# Altium schematic symbol library SCHLib.SchLib: 80 symbols (part 1 of 3)
Pins are listed as number, name and electrical type; pins without a type are passive.

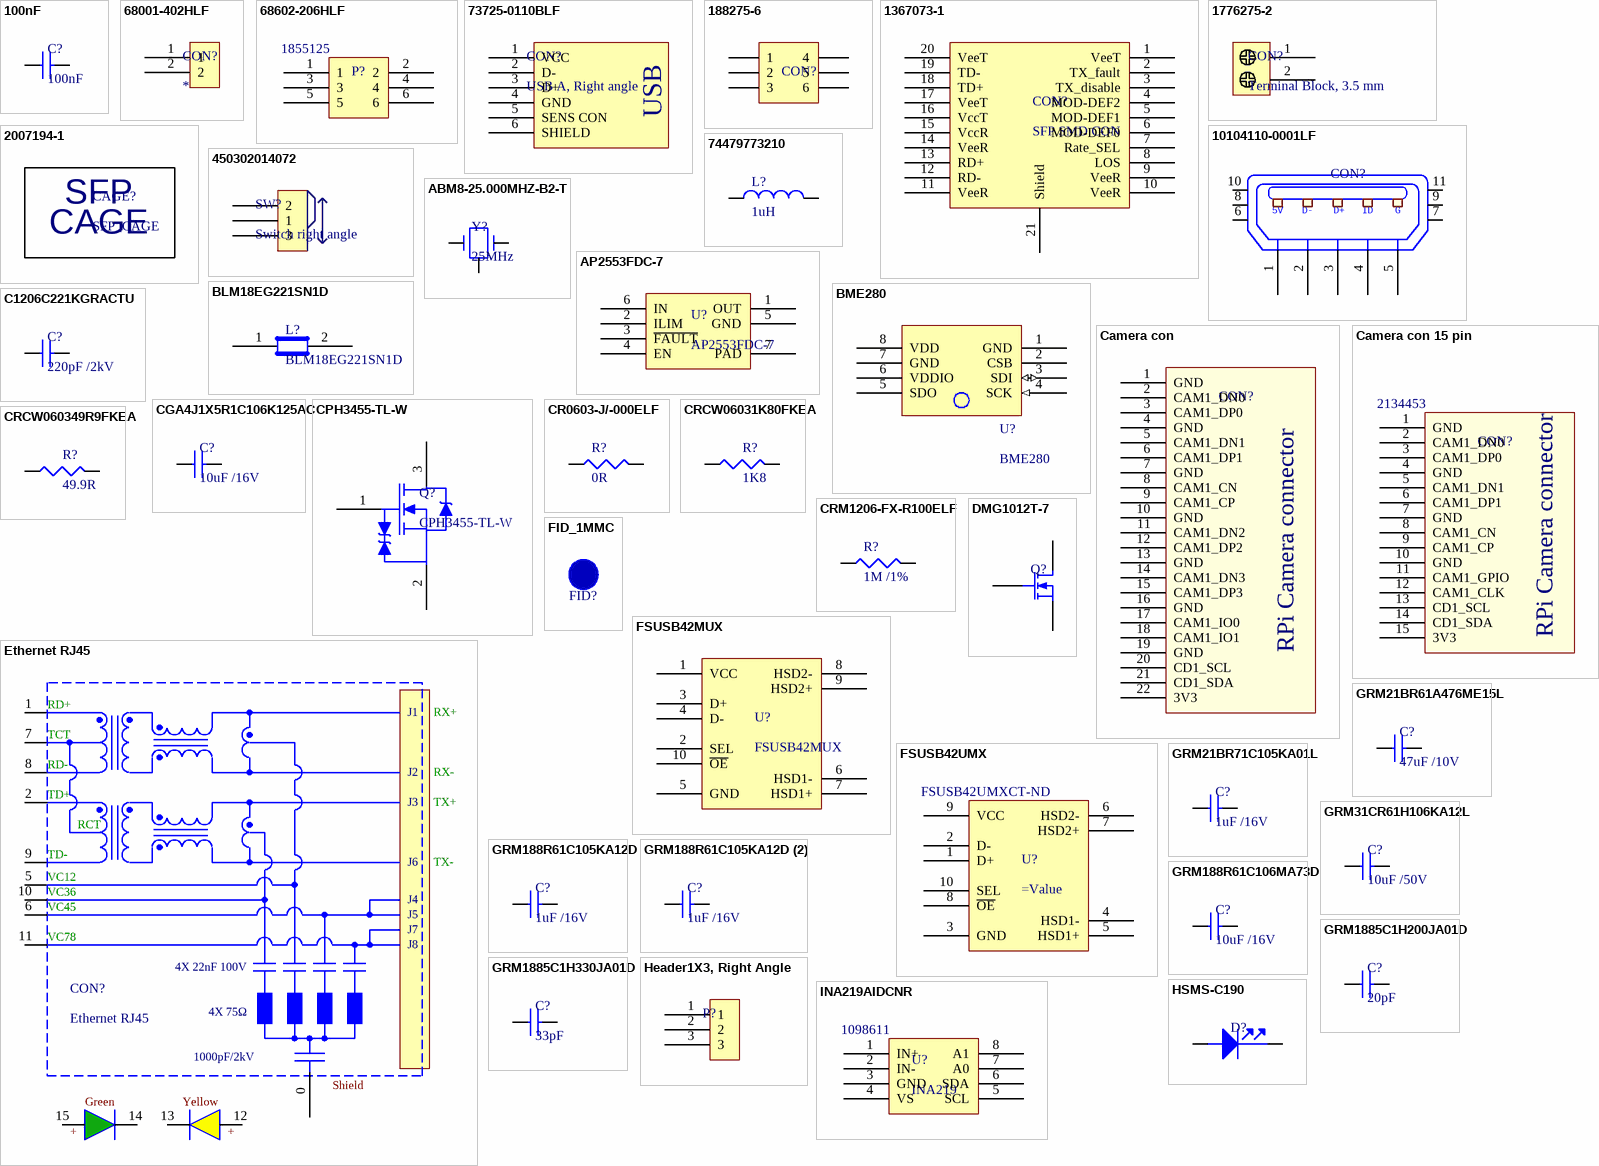
[diagram p0: symbols 100nF to INA219AIDCNR]

## 100nF
designator C?
MURATA - GRM188R71C104KA01J - CAP, MLCC, X7R, 0.1UF, 16V, 0603; Ceramic Capacitor Case: 0603 [1608 Metric]; Capacitance: 0.1; Voltage Rating: 16; Capacitance Tolerance: ± 10%; Dielectric Characteristic: X7; Product Range: GRM Series; SVHC: No SVHC (20-Jun-2016; Supplier 1: Farnell; Manufacturer: MURATA; Manufacturer Part Number: GRM188R71C104KA01J; RoHS: YES; Stock 1: 18297; Pricing 1: 10=0.0145, 100=0.0126, 500=0.0081, 2500=0.0059, 5000=0.0052, 10000=0.0046, 50000=0.0036, 100000=0.0035 (GBP); Packaging: Cut Tape; Operating Temperature Min: -55; Operating Temperature Max: 125; Automotive Qualification Standard: -; MSL: MSL 1 - Unlimited; ComponentLink1URL: http://www.farnell.com/datasheets/2189124.pdf; ComponentLink1Description: http://www.farnell.com/datasheets/2189124.pdf; Supplier Part Number 1: 2688519
footprint CAP0603
pins: 1, 2

## 68001-402HLF
designator CON?
Headers & Wire Housings 2P VERT HDR; Manufacturer: Amphenol FCI; Manufacturer Part Number: 68001-402HLF; Current Rating: 3 A; Mounting Angle: Vertical; Number of Positions: 2 Position; Voltage Rating: 1.5 kV; Pitch: 2.54 mm; Insulation Resistance: 5000 MOhms; Mating Post Length: 5.84 mm; Supplier 1: Mouser; RoHS: RoHS Compliant; Category: Headers & Wire Housings; Stock 1: 11486; Pricing 1: 1=0.113, 10=0.104, 100=0.064, 500=0.053, 1000=0.046, 2500=0.042, 5000=0.040, 10000=0.039, 25000=0.036 (EUR); Contact Plating: Tin; Housing Material: Thermoplastic; Number of Rows: 1 Row; Operating Temperature Range: - 65 C to + 125 C; Packaging: Bulk; Product: Headers; Series: 68001; Termination Style: Through Hole; Type: Unshrouded; Brand: Amphenol FCI; Contact Material: Phosphor Bronze; Flammability Rating: UL 94 V-0; Mounting Style: -; Contact Gender: Pin (Male); Housing Gender: -; Standard Pack Qty: 100; Termination Post Length: 3.05 mm; Tradename: BergStik; RoHS - Mouser: Y; Minimum Order Quantity: 1; Reeling: False; ComponentLink1URL: http://www.mouser.com/ds/2/18/bus-12-050-943077.pdf; ComponentLink1Description: http://www.mouser.com/ds/2/18/bus-12-050-943077.pdf
footprint Hdr1x2_2.54mm (Creator MM)
pins: 1, 2

## 68602-206HLF
designator P?, comment Supplier Part Number 2: 1855125  (hidden comment: HDR2X3)
Headers & Wire Housings 6P DR VRT UNSHRD HDR .38 GOLD OVER NICKEL; Manufacturer: Amphenol FCI; Manufacturer Part Number: 68602-206HLF; Current Rating: 3 A; Mounting Angle: Vertical; Number of Positions: 6 Position; Voltage Rating: 1.5 kV; Pitch: 2.54 mm; Insulation Resistance: 5000 MOhms; Mating Post Length: 5.84 mm; Supplier 1: Mouser; RoHS: RoHS Compliant; Category: Headers & Wire Housings; Stock 1: 1389; Pricing 1: 1=0.443, 10=0.427, 100=0.300, 500=0.256, 1000=0.214, 2500=0.196, 5000=0.184, 10000=0.174 (EUR); Contact Plating: Gold; Housing Material: Thermoplastic; Number of Rows: 2 Row; Operating Temperature Range: - 65 C to + 125 C; Packaging: Bulk; Product: Headers; Series: 68602; Termination Style: Through Hole; Type: Unshrouded; Brand: Amphenol FCI; Contact Material: Phosphor Bronze; Flammability Rating: UL 94 V-0; Mounting Style: -; Contact Gender: Pin (Male); Housing Gender: -; Standard Pack Qty: 100; Termination Post Length: 3.81 mm; Tradename: BergStik; RoHS - Mouser: Y; Minimum Order Quantity: 1; Reeling: False; ComponentLink1URL: http://www.mouser.com/ds/2/18/bus-12-050-943077.pdf; ComponentLink1Description: http://www.mouser.com/ds/2/18/bus-12-050-943077.pdf; Supplier Part Number 1: 649-68602-206HLF; Supplier 2: Farnell; Stock 2: 650; Pricing 2: 1=2.52, 10=2, 25=1.93, 50=1.77, 100=1.61 (GBP); ComponentLink2URL: http://www.ti.com/general/docs/lit/getliterature.tsp?genericPartNumber=INA219&fileType=pdf; ComponentLink2Description: http://www.ti.com/general/docs/lit/getliterature.tsp?genericPartNumber=INA219&fileType=pdf; ComponentLink3URL: http://www.farnell.com/cad/1611639.zip; ComponentLink3Description: http://www.farnell.com/cad/1611639.zip; ComponentLink4URL: http://www.farnell.com/datasheets/2037325.pdf; ComponentLink4Description: http://www.farnell.com/datasheets/2037325.pdf
footprint HDR2X3_2.54MM (Creator MM. Boxed overlay added)
pins: 1, 2, 3, 4, 5, 6

## 73725-0110BLF
designator CON?, comment USB A, Right angle
AMPHENOL FCI - 73725-0110BLF - USB, 2.0 TYPE A, RECEPTACLE, TH; USB Connector Type: USB Type A; USB Standard: USB 2.0; No. of Positions: 4; Connector Mounting: Through Hole Mount; SVHC: No SVHC (15-Jun-2015); Connector Type: USB A; Contact Termination: Through Hole Right Angle; Contact Termination Type: Through Hole; No. of Contacts: 4Contacts<!--FANDB--><div class="features-and-benefits-container"><div class="features-and-benefits-description"><span class="features-benefits-value">The 73725-0110BLF is a right angle USB type-A Receptacle Connector with single stack, 30?inch GXT contact and glass fibre filled thermoplastic housing.</span></div><div class="features-and-benefits-list"><ul class="features-and-benefits-list-list"><li class="features-and-benefits-list-item">Through Hole Mounting</li><li class="features-and-benefits-list-item">Up Right Pin Orientation</li><li class="features-and-benefits-list-item">Pure Tin-plated Shell</li><li class="features-and-benefits-list-item">100; Supplier 1: Farnell; Manufacturer: AMPHENOL FCI; Manufacturer Part Number: 73725-0110BLF; RoHS: YES; Stock 1: 6842; Pricing 1: 1=0.476, 10=0.433, 100=0.39, 500=0.353, 1000=0.316, 2500=0.31, 9000=0.303 (GBP); Gender: Receptacle; Orientation: Right Angle; Contact Material: Copper Alloy; Contact Plating: Gold Plated Contacts; Product Range: -; ComponentLink1URL: http://www.farnell.com/cad/2043081.pdf; ComponentLink1Description: http://www.farnell.com/cad/2043081.pdf; ComponentLink2URL: http://www.farnell.com/datasheets/1918629.pdf; ComponentLink2Description: http://www.farnell.com/datasheets/1918629.pdf; Supplier Part Number 1: 2112380
footprint USB A, TH, Right Angle
pins: 1 VCC (oc), 2 D- (oc), 3 D+ (oc), 4 GND (oc), 5 SENS CON (oc), 6 SHIELD (oc)
text: USB

## 188275-6
designator CON?, comment MICROMATCH 6 SMD  (value not drawn)
AMP - TE CONNECTIVITY - 188275-6 - CONNECTOR, RCPT, 6POS, 2ROW, 1.27MM; Supplier 1: Farnell; Manufacturer: AMP - TE CONNECTIVITY; Manufacturer Part Number: 188275-6; RoHS: YES; Stock 1: 82; Pricing 1: 10=0.616, 50=0.561, 100=0.517, 250=0.482, 500=0.448, 1000=0.395 (GBP); ComponentLink1URL: http://www.farnell.com/cad/1942471.pdf; ComponentLink1Description: http://www.farnell.com/cad/1942471.pdf; Supplier Part Number 1: 2452479
footprint MICROMATCH2X3
pins: 1, 2, 3, 4, 5, 6

## 1367073-1
designator CON?, comment SFP SMD CON
AMP - TE CONNECTIVITY - 1367073-1 - CONNECTOR, SFP, SMT, 20WAY; No. of Contacts: 20; Gender: Receptacle; Contact Termination Type: Solder; Product Range: SFP System Series; Connector Mounting: PCB Mount; SVHC: No SVHC (15-Jun-2015); Connector Mounting Orientation: Surface Mount; Supplier 1: Farnell; Manufacturer: AMP - TE CONNECTIVITY; Manufacturer Part Number: 1367073-1; RoHS: YES; Stock 1: 1743; Pricing 1: 1=0.99, 10=0.92, 50=0.89, 100=0.58, 250=0.56, 500=0.54 (GBP); Connector Type: SFP; Contact Plating: Gold Plated Contacts; Contact Material: Phosphor Bronze; Colour: Black; Contact Termination: Solder; Flammability Rating: UL 94V-0; Material: Liquid Crystal Polymer (LCP); Packaging: Cut Tape; Termination Method: Solder<!--FANDB--><div class="features-and-benefits-container"><div class="features-and-benefits-description"><span class="features-benefits-value">The 1367073-1 is a 20-pin 1-port surface-mount SFP Connector with gold-plated phosphor bronze contacts and black LCP housing. The connector features integrated light pipes for port indicators, connectors with improved signal integrity, enhanced EMI springs for increased EMI suppression and riding heat sink technology for thermal management.</span></div><div class="features-and-benefits-list"><ul class="features-and-benefits-list-list"><li class="features-and-benefits-list-item">Supports applications up to 4Gbps</li><li class="features-and-benefits-list-item">Cages available in single port, ganged and stacked configurations</li><li class="features-and-benefits-list-item">Stacked cages have integrated connectors, press-fit in one process step</li><li class="features-and-benefits-list-item">Uses 20 position PT (pluggable transceiver) connector</li><li class="features-and-benefits-list-item">Direct attach copper cable assemblies for lower cost with short reach</li><li class="features-and-benefits-list-item">Integrated light pipes for port indicators</li><li class="features-and-benefits-list-item">Enhanced EMI springs for increased EMI suppression</li><li class="features-and-benefits-list-item">Riding heat sink technology for thermal management</li></ul></div><div class="features-and-benefits-applications"><ul class="features-and-benefits-value"><li class="features-and-benefits-list-item">Industrial</li></ul></div></div>; ComponentLink1URL: http://www.tycoelectronics.com/commerce/DocumentDelivery/DDEController?Action=srchrtrv&DocNm=1367073-1&DocType=Customer+View+Model&DocLang=English; ComponentLink1Description: http://www.tycoelectronics.com/commerce/DocumentDelivery/DDEController?Action=srchrtrv&DocNm=1367073-1&DocType=Customer+View+Model&DocLang=English; ComponentLink2URL: http://www.farnell.com/cad/1794462.pdf; ComponentLink2Description: http://www.farnell.com/cad/1794462.pdf; ComponentLink3URL: http://www.tycoelectronics.com/commerce/DocumentDelivery/DDEController?Action=srchrtrv&DocNm=408-8495&DocType=Specification+Or+Standard&DocLang=English; ComponentLink3Description: http://www.tycoelectronics.com/commerce/DocumentDelivery/DDEController?Action=srchrtrv&DocNm=408-8495&DocType=Specification+Or+Standard&DocLang=English; ComponentLink4URL: http://www.farnell.com/datasheets/1650946.pdf; ComponentLink4Description: http://www.farnell.com/datasheets/1650946.pdf; Supplier Part Number 1: 1629987
footprint PCB_SFP_COVER
pins: 1 VeeT, 2 TX_fault, 3 TX_disable, 4 MOD-DEF2, 5 MOD-DEF1, 6 MOD-DEF0, 7 Rate_SEL, 8 LOS, 9 VeeR, 10 VeeR, 11 VeeR, 12 RD-, 13 RD+, 14 VeeR, 15 VccR, 16 VccT, 17 VeeT, 18 TD+, 19 TD-, 20 VeeT, 21 Shield (oc)

## 1776275-2
designator CON?, comment Terminal Block, 3.5 mm
TE CONNECTIVITY - 1776275-2 - TERMINAL BLOCK, WIRE TO BRD, 2POS, 18AWG; Pitch Spacing: 3.5; No. of Positions: 2; Wire Size AWG Min: 26; Wire Size AWG Max: 18; Conductor Area CSA: 0.9; Wire Connection Method: Screw; Rated Current: 7; Rated Voltage: 250; Block Orientation: Through Hole Right Angle; SVHC: No SVHC (15-Jun-2015); Approval Bodies: CSA, UL; Connector Mounting: PCB Mount; Connector Type: Terminal Block, PCB; Contact Current Rating: 10; Wire Area Size Max: 2.08mm²<!--FANDB--><div class="features-and-benefits-container"><div class="features-and-benefits-description"><span class="features-benefits-value">The 1776275-2 from TE Connectivity is a through hole, 2 position vertical PCB mount terminal block with interlocking. This terminal block comes with 3.5mm pitch spacing and is suitable for wire size ranging from 26AWG to 18; Supplier 1: Farnell; Manufacturer: TE CONNECTIVITY; Manufacturer Part Number: 1776275-2; RoHS: Y-EX; Stock 1: 22978; Pricing 1: 1=0.198, 50=0.148, 150=0.141, 250=0.135, 500=0.128, 1500=0.123 (GBP); Product Range: -; Colour: Blue; Contact Material: Brass; Contact Plating: Tin Plated Contacts; Lead Spacing: 3.5; Voltage Rating VAC: 250; ComponentLink1URL: http://www.farnell.com/datasheets/1899918.pdf; ComponentLink1Description: http://www.farnell.com/datasheets/1899918.pdf; ComponentLink2URL: http://www.farnell.com/cad/2291290.pdf; ComponentLink2Description: http://www.farnell.com/cad/2291290.pdf; ComponentLink3URL: http://www.farnell.com/datasheets/1650926.pdf; ComponentLink3Description: http://www.farnell.com/datasheets/1650926.pdf; ComponentLink4URL: http://www.farnell.com/datasheets/2159487.pdf; ComponentLink4Description: http://www.farnell.com/datasheets/2159487.pdf; Supplier Part Number 1: 1098611
footprint Block Terminal 3.5mm
pins: 1 (oc), 2 (oc)

## 2007194-1
designator CAGE?, comment SFP_CAGE
TE CONNECTIVITY - 2007194-1 - CAGE, 1X1, SFP+, PCI APPLICATIONS; Accessory Type: Connector Cage / Frame; For Use With: Small Form-Factor Pluggable Connectors; Connector Mounting: PCB Mount; Connector Mounting Orientation: PC Board; Connector Type: SFP; Contact Termination: Solder; Supplier 1: Farnell; Manufacturer: TE CONNECTIVITY; Manufacturer Part Number: 2007194-1; RoHS: YES; Stock 1: 26; Pricing 1: 1=4.6, 5=4.41, 10=4.22, 25=4.03, 50=3.5, 200=3.18, 500=2.86, 2000=2.8 (GBP); Product Range: -; Material: Nickel Silver<!--FANDB--><div class="features-and-benefits-container"><div class="features-and-benefits-description"><span class="features-benefits-value">The 2007194-1 is a 1-port Cage Assembly with external springs and solder through-hole termination. It is made with nickel silver single cage. The SFP+ pluggable cage designed to support data rate of 16Gbps. This SFP+ pluggable cage has one degree mounting angle to meet the requirements of SFF-8075 for PCI card applications and support belly-to-belly mount applications.</span></div><div class="features-and-benefits-applications"><ul class="features-and-benefits-value"><li class="features-and-benefits-list-item">Industrial</li></ul></div></div>; ComponentLink1URL: http://www.farnell.com/datasheets/1654545.pdf; ComponentLink1Description: http://www.farnell.com/datasheets/1654545.pdf; ComponentLink2URL: http://www.farnell.com/cad/1661409.pdf; ComponentLink2Description: http://www.farnell.com/cad/1661409.pdf; ComponentLink3URL: http://www.farnell.com/datasheets/1922296.pdf; ComponentLink3Description: http://www.farnell.com/datasheets/1922296.pdf; Supplier Part Number 1: 1755779
footprint SFP_CAGE_3D
text: CAGE

## 10104110-0001LF
designator CON?  (value not drawn)
AMPHENOL FCI - 10104110-0001LF - MICRO USB, 2.0 TYPE B, RECEPTACLE, SMT; USB Connector Type: Micro USB Type B; USB Standard: USB 2.0; No. of Positions: 5; Connector Mounting: Surface Mount; SVHC: No SVHC (15-Jun-2015); Connector Type: USB Micro B; Contact Termination: Surface Mount Right Angle; No. of Contacts: 5Contacts<!--FANDB--><div class="features-and-benefits-container"><div class="features-and-benefits-description"><span class="features-benefits-value">The 10104110-0001LF is a micro-USB type-B Receptacle Connector, comply with physical, electrical and environmental requirements of micro-USB standard (USB 2.0). Space receptacles and plugs are available in a wide variety of mounting and termination configurations, permitting their use in various applications. Compared with the standard mini-B connectors, the size is reduced by approximately 60% while still allowing a high-speed data transfer of 480; Supplier 1: Farnell; Manufacturer: AMPHENOL FCI; Manufacturer Part Number: 10104110-0001LF; RoHS: YES; Stock 1: 25585; Pricing 1: 1=0.464, 10=0.451, 25=0.437, 50=0.424, 100=0.41, 250=0.291 (GBP); Gender: Receptacle; Orientation: Right Angle; Contact Material: Copper Alloy; Contact Plating: Gold Plated Contacts; Product Range: -; Contact Termination Type: Surface Mount; ComponentLink1URL: http://www.farnell.com/datasheets/1469072.pdf; ComponentLink1Description: http://www.farnell.com/datasheets/1469072.pdf; Supplier Part Number 1: 2293753
footprint 10118193 (Creator MM)
pins: 1 P1, 2 P2, 3 P3, 4 P4, 5 P5, 6, 7, 8, 9, 10, 11
text: 5V; D-; D+; ID; G

## 74479773210
designator L?, comment 1uH
WURTH ELEKTRONIK - 74479773210 - INDUCTOR, MULTILAYER, 1UH, SMD; Product Range: WE-PMI Series; Inductance: 1; DC Resistance Max: 0.18; Inductance Tolerance: ± 20%; Power Inductor Case: 2mm x 1.25mm x 0.5; RMS Current (Irms): 1.2; Saturation Current (Isat): 800; Supplier 1: Farnell; Manufacturer: WURTH ELEKTRONIK; Manufacturer Part Number: 74479773210; RoHS: YES; Stock 1: 46; Pricing 1: 1=0.39, 50=0.34, 100=0.29, 250=0.25 (GBP); Inductor Construction: Multilayer; Packaging: Cut Tape; ComponentLink1URL: http://www.farnell.com/cad/2130715.pdf; ComponentLink1Description: http://www.farnell.com/cad/2130715.pdf; ComponentLink2URL: http://www.farnell.com/datasheets/1795751.pdf; ComponentLink2Description: http://www.farnell.com/datasheets/1795751.pdf; Supplier Part Number 1: 2400015
footprint CAP0805
pins: 1, 2

## 450302014072
designator SW?, comment Switch right angle
WURTH ELEKTRONIK - 450302014072 - SWITCH, SLIDE, MINI, ON-ON, RIGHT ANGLE; Contact Configuration: SPDT; Switch Mounting: Through Hole; Contact Current Max: 500; Contact Voltage DC Max: 12; Contact Resistance: 30; Supplier 1: Farnell; Manufacturer: WURTH ELEKTRONIK; Manufacturer Part Number: 450302014072; RoHS: YES; Stock 1: 395; Pricing 1: 1=1.86, 100=1.46, 500=1.43, 900=1.4, 3000=1.37, 6000=1.34, 9000=1.31 (GBP); Switch Operation: On-On; Product Range: -; Contact Voltage AC Max: -; Orientation: Right Angle; Operating Temperature Max: 85; Operating Temperature Min: -40°C<!--FANDB--><div class="features-and-benefits-container"><div class="features-and-benefits-description"><span class="features-benefits-value">The 450302014072 is a 3.5 x 4.7mm surface mount J-bend side push Switch with 220 ±50g operation force and boss design. It comes with gold-plated contact and UL94V-0 rated PA66 housing. The 436333045822 features SPDT contact configuration.</span></div><div class="features-and-benefits-list"><ul class="features-and-benefits-list-list"><li class="features-and-benefits-list-item">UL94V-0 Flame-rated insulator</li><li class="features-and-benefits-list-item">10000; ComponentLink1URL: http://www.farnell.com/datasheets/1913864.pdf; ComponentLink1Description: http://www.farnell.com/datasheets/1913864.pdf; Supplier Part Number 1: 2134453
footprint SW ANGLE 3PIN
pins: 1 (oc), 2 (oc), 3 (oc)

## ABM8-25.000MHZ-B2-T
designator Y?, comment 25MHz
ABRACON - ABM8-25.000MHZ-B2-T - CRYSTAL, 25M, 18PF CL, 3.2X2.5MM SMT; Frequency Nom: 25; Crystal Case: SMD, 3.2mm x 2.5; Frequency Stability + / -: 50; Load Capacitance: 18; Frequency Tolerance + / -: 20; Product Range: ABM8 Series; SVHC: No SVHC (15-Jun-2015); Accuracy: ± 20; Crystal Mounting Type: SMD; Frequency Stability: ± 50; No. of Pins: 4; Supplier 1: Farnell; Manufacturer: ABRACON; Manufacturer Part Number: ABM8-25.000MHZ-B2-T; RoHS: YES; Stock 1: 4212; Pricing 1: 1=1.09, 2=0.9, 3=0.807, 5=0.745, 10=0.696, 20=0.658, 50=0.633, 100=0.621 (GBP); Operating Temperature Min: -20; Operating Temperature Max: 70; Frequency: 25; Operating Temperature Range: -20°C to +70; Output Frequency: 25; Packaging: Cut Tape<!--FANDB--><div class="features-and-benefits-container"><div class="features-and-benefits-description"><span class="features-benefits-value">The ABM8-25.000MHZ-B2-T is a 3.2 x 2.5 x 0.8mm 20ppm ultra miniature ceramic surface-mount Crystal features seam sealed assures high reliability, tight tolerance and stability. The ABM8 series crystal for use with the modems, communication and test equipment, PMCIA, wireless and high density applications. It is suitable for reflow profile.</span></div><div class="features-and-benefits-list"><ul class="features-and-benefits-list-list"><li class="features-and-benefits-list-item">Fundamental operation mode</li><li class="features-and-benefits-list-item">50; ComponentLink1URL: http://www.farnell.com/datasheets/1883676.pdf; ComponentLink1Description: http://www.farnell.com/datasheets/1883676.pdf; Supplier Part Number 1: 1611821
footprint XTAL_small (3.2 X 2.5 mm SMD crystal)
pins: 1, 2, 3

## AP2553FDC-7
designator U?
IC PD SW CURR LIMIT 6DFN; Manufacturer: Diodes Incorporated; Switch Type: General Purpose; Number of Outputs: 1; Ratio - Input:Output: 1:1; Output Configuration: High Side; Output Type: P-Channel; Interface: On/Off; Voltage - Load: 2.7 V ~ 5.5 V; Voltage - Supply (Vcc/Vdd): Not Required; Current - Output (Max): 2.1A; Rds On (Typ): 80 mOhm; Input Type: Non-Inverting; Fault Protection: Current Limiting (Adjustable), Over Temperature, Reverse Current, UVLO; Supplier 1: Digi-Key; Manufacturer Part Number: AP2553FDC-7; RoHS: RoHS Compliant; Category: Integrated Circuits (ICs); Stock 1: 10636; Pricing 1: 1=0.5, 10=0.425, 100=0.3172, 500=0.24926, 1000=0.19261 (USD); Packaging: Cut Tape (CT); Part Status: Active; Features: Load Discharge, Status Flag; Operating Temperature: -40°C ~ 125°C (TJ); Package / Case: 6-UDFN Exposed Pad; Supplier Device Package: 6-DFN2020C (2x2); ComponentLink1URL: https://www.diodes.com/assets/Datasheets/AP255x.pdf; ComponentLink1Description: https://www.diodes.com/assets/Datasheets/AP255x.pdf; Supplier Part Number 1: AP2553FDC-7DICT-ND
footprint SON65P200X63_HS-7N (SON, 6-Leads, Body 2.01x2.01mm, Pitch 0.65mm, Thermal Pad 1.65x0.83mm, IPC Medium Density)
pins: 1 OUT (oc), 2 ILIM (oc), 3 ~{FAULT} (oc), 4 EN (oc), 5 GND (oc), 6 IN (oc), 7 PAD (oc)

## BLM18EG221SN1D
designator L?
MURATA - BLM18EG221SN1D - FERRITE BEAD, 0.05OHM, 2A, 0603; Impedance @ 100MHz: 220; Ferrite Case Style: 0603 [1608 Metric]; Product Range: BLM18; DC Current Rating: 2; DC Resistance Max: 0.05; Impedance Tolerance: ± 25%; SVHC: No SVHC (17-Dec-2015); Ferrite Mounting: SMD; Resistance: 0.05ohm<!--FANDB--><div class="features-and-benefits-container"><div class="features-and-benefits-description"><span class="features-benefits-value">The Murata BLM18EG series are EMIFIL chip ferrite beads for suppressing high frequency noise in GHz band general signal line applications. These chip ferrite beads are designed for reducing the possibility of resonance to provide undistorted signal waveform. EMIFIL chip ferrite beads do not require connection to ground so they are effectively used in circuits without stable ground lines. The nickel barrier structure of the external electrodes provides excellent solder heat resistance. BLM18EG series has modified internal electrode structure that minimizes stray capacitance and increases the effective frequency range.</span></div><div class="features-and-benefits-list"><ul class="features-and-benefits-list-list"><li class="features-and-benefits-list-item">EIA 0603 standard chip size</li><li class="features-and-benefits-list-item">Miniaturized ferrite beads</li><li class="features-and-benefits-list-item">Effective at low impedance line</li><li class="features-and-benefits-list-item">Available in selective impedance range values at 100MHz</li><li class="features-and-benefits-list-item">Low DC resistance</li><li class="features-and-benefits-list-item">Large rated current</li><li class="features-and-benefits-list-item">Excellent direct current characteristics</li><li class="features-and-benefits-list-item">Suitable for small and low profile equipments</li><li class="features-and-benefits-list-item">Operating temperature range -55°C to 125; Supplier 1: Farnell; Manufacturer: MURATA; Manufacturer Part Number: BLM18EG221SN1D; RoHS: YES; Stock 1: 36495; Pricing 1: 10=0.0777, 100=0.064, 500=0.0516, 1000=0.038, 2000=0.033, 4000=0.03, 20000=0.0295, 40000=0.0262 (GBP); Automotive Qualification Standard: -; Core Material: Ferrite; Operating Temperature Max: +125; Operating Temperature Min: -55; Packaging: Cut Tape; ComponentLink1URL: http://www.farnell.com/datasheets/5169.pdf; ComponentLink1Description: http://www.farnell.com/datasheets/5169.pdf; Supplier Part Number 1: 1515716
footprint CAP0603
pins: 1, 2

## BME280
designator U?
Board Mount Humidity Sensors; Manufacturer: Bosch Sensortec; Output Type: Digital; Interface Type: I2C, SPI; Operating Supply Current: 0.5 uA; Operating Supply Voltage: 1.8 V; RH Accuracy: 3 %; RH Range: 0 % to 100 %; Supply Voltage - Max: 3.6 VDC; Supply Voltage - Min: 1.7 VDC; Supplier 1: Mouser; Manufacturer Part Number: BME280; RoHS: RoHS Compliant; Category: Board Mount Humidity Sensors; Stock 1: 21206; Pricing 1: 1=6.85, 10=6.16, 25=5.06, 100=4.38, 250=4.24, 500=4.10, 1000=3.83, 2500=3.53, 5000=3.09, 10000=3.09 (EUR); Package/Case: LGA-8; Packaging: Reel; Product: Board Mount; Brand: Bosch Sensortec; Mounting Style: SMD/SMT; Maximum Operating Temperature: + 85 C; Minimum Operating Temperature: - 40 C; Standard Pack Qty: 10000; RoHS - Mouser: Y; Minimum Order Quantity: 1; Reeling: True; ComponentLink1URL: http://www.mouser.com/ds/2/783/BST-BME280_DS001-11-844833.pdf; ComponentLink1Description: http://www.mouser.com/ds/2/783/BST-BME280_DS001-11-844833.pdf; Supplier Part Number 1: 262-BME280
footprint CAVITY MEMS
pins: 1 GND (oc), 2 CSB (oc), 3 SDI (io), 4 SCK (in), 5 SDO (oc), 6 VDDIO (oc), 7 GND (oc), 8 VDD (oc)

## C1206C221KGRACTU
designator C?, comment 220pF /2kV
KEMET - C1206C221KGRACTU - CAP, MLCC, X7R, 220PF, 2KV, 1206; Supplier 1: Farnell; Manufacturer: KEMET; Manufacturer Part Number: C1206C221KGRACTU; RoHS: YES; Stock 1: 1984; Pricing 1: 5=0.153, 50=0.0991, 250=0.0793, 500=0.0671, 1000=0.0581, 2500=0.0484, 12500=0.0415, 25000=0.0363 (GBP); ComponentLink1URL: http://www.farnell.com/datasheets/2180568.pdf; ComponentLink1Description: http://www.farnell.com/datasheets/2180568.pdf; Supplier Part Number 1: 2676444RL
footprint CAP1206
pins: 1, 2

## Camera con
designator CON?
Raspberry Pi camera connector; Value: Camera
pins: 1 GND, 2 CAM1_DN0, 3 CAM1_DP0, 4 GND, 5 CAM1_DN1, 6 CAM1_DP1, 7 GND, 8 CAM1_CN, 9 CAM1_CP, 10 GND, 11 CAM1_DN2, 12 CAM1_DP2, 13 GND, 14 CAM1_DN3, 15 CAM1_DP3, 16 GND, 17 CAM1_IO0, 18 CAM1_IO1, 19 GND, 20 CD1_SCL, 21 CD1_SDA, 22 3V3
text: RPi Camera connector

## Camera con 15 pin
designator CON?, comment Supplier Part Number 2: 2134453  (hidden comment: 1-1734248-5)
Raspberry Pi camera connector; Manufacturer: TE Connectivity / AMP; Current Rating: 1 A; Gender: Female; Mounting Angle: Vertical; Number of Positions: 15 Position; Voltage Rating: 125 V; Pitch: 1 mm; Actuation Type: ZIF; Contact Configuration: SPDT; Switch Operation: On-On; Switch Mounting: Through Hole; Contact Current Max: 500; Contact Voltage DC Max: 12; Contact Resistance: 30; Value: Camera; Datasheet: http://www.mouser.com/ds/2/418/NG_CD_1734248_E1__-658235.pdf; Manufacturer Part Number: 1-1734248-5; Supplier 1: Mouser; RoHS: RoHS Compliant; Category: FFC & FPC Connectors; Stock 1: 1477; Pricing 1: 1=1.67, 25=1.53, 50=1.42, 100=1.26, 500=1.17, 1000=1.10, 2500=0.952 (EUR); Contact Plating: Gold; Housing Material: Polyamide (PA); Product: Board Mount; Series: FPC; Temperature Range: - 20 C to + 85 C; Termination Style: SMD; Brand: TE Connectivity / AMP; Contact Material: Phosphor Bronze; Standard Pack Qty: 1000; RoHS - Mouser: Y; Minimum Order Quantity: 1; Reeling: False; ComponentLink1URL: http://www.mouser.com/ds/2/418/NG_CD_1734248_E1__-658235.pdf; ComponentLink1Description: http://www.mouser.com/ds/2/418/NG_CD_1734248_E1__-658235.pdf; Supplier Part Number 1: 571-1-1734248-5; Supplier 2: Farnell; Stock 2: 395; Pricing 2: 1=1.86, 100=1.46, 500=1.43, 900=1.4, 3000=1.37, 6000=1.34, 9000=1.31 (GBP); Product Range: -; Contact Voltage AC Max: -; Orientation: Right Angle; Operating Temperature Max: 85; Operating Temperature Min: -40°C<!--FANDB--><div class="features-and-benefits-container"><div class="features-and-benefits-description"><span class="features-benefits-value">The 450302014072 is a 3.5 x 4.7mm surface mount J-bend side push Switch with 220 ±50g operation force and boss design. It comes with gold-plated contact and UL94V-0 rated PA66 housing. The 436333045822 features SPDT contact configuration.</span></div><div class="features-and-benefits-list"><ul class="features-and-benefits-list-list"><li class="features-and-benefits-list-item">UL94V-0 Flame-rated insulator</li><li class="features-and-benefits-list-item">10000; ComponentLink2URL: http://www.farnell.com/datasheets/1913864.pdf; ComponentLink2Description: http://www.farnell.com/datasheets/1913864.pdf
footprint 1-1734248-5 (flat cable connector)
pins: 1 GND, 2 CAM1_DN0, 3 CAM1_DP0, 4 GND, 5 CAM1_DN1, 6 CAM1_DP1, 7 GND, 8 CAM1_CN, 9 CAM1_CP, 10 GND, 11 CAM1_GPIO, 12 CAM1_CLK, 13 CD1_SCL, 14 CD1_SDA, 15 3V3
text: RPi Camera connector

## CGA4J1X5R1C106K125AC
designator C?, comment 10uF /16V
TDK - CGA4J1X5R1C106K125AC - CAP, MLCC, X5R, 10UF, 16V, 0805; Supplier 1: Farnell; Manufacturer: TDK; Manufacturer Part Number: CGA4J1X5R1C106K125AC; RoHS: YES; Stock 1: 8974; Pricing 1: 5=0.41, 50=0.146, 250=0.131, 500=0.12, 1000=0.103 (GBP); ComponentLink1URL: http://bcove.me/e1v54mtm; ComponentLink1Description: http://bcove.me/e1v54mtm; ComponentLink2URL: http://www.farnell.com/datasheets/1936565.pdf; ComponentLink2Description: http://www.farnell.com/datasheets/1936565.pdf; ComponentLink3URL: http://www.farnell.com/datasheets/1683658.pdf; ComponentLink3Description: http://www.farnell.com/datasheets/1683658.pdf; Supplier Part Number 1: 2210948RL
footprint CAP0805
pins: 1, 2

## CPH3455-TL-W
designator Q?
ON SEMICONDUCTOR - CPH3455-TL-W - MOSFET, N-CH, 35V, 3A, CPH-3; Supplier 1: Farnell; Manufacturer: ON SEMICONDUCTOR; Manufacturer Part Number: CPH3455-TL-W; RoHS: YES; Stock 1: 2861; Pricing 1: 1=0.451, 50=0.378, 100=0.203, 250=0.193, 500=0.175, 1000=0.126 (GBP); ComponentLink1URL: http://www.farnell.com/datasheets/2000321.pdf; ComponentLink1Description: http://www.farnell.com/datasheets/2000321.pdf; ComponentLink2URL: http://www.farnell.com/datasheets/2289080.pdf; ComponentLink2Description: http://www.farnell.com/datasheets/2289080.pdf; Supplier Part Number 1: 2508370
footprint SOT23127P600-8N - 1
pins: 1 (oc), 2 (oc), 3 (oc)

## CR0603-J/-000ELF
designator R?, comment 0R
BOURNS - CR0603-J/-000ELF - RES, THICK FILM, 0R, 5%, 0.1W, 0603; Resistance: 0; Voltage Rating: 50; Resistor Case Style: 0603 [1608 Metric]; Power Rating: 100; Product Range: CR Series; SVHC: No SVHC (17-Dec-2015); Resistor Mounting: Surface Mount Device<!--FANDB--><div class="features-and-benefits-container"><div class="features-and-benefits-description"><span class="features-benefits-value">The Bourns CR series are standard thick film chip resistors. These resistors provide flexibility of performance, space saving and low cost. The Resistance range includes E96 and E24 decade values from 1ohm to 10Mohm.</span></div><div class="features-and-benefits-list"><ul class="features-and-benefits-list-list"><li class="features-and-benefits-list-item">0201, 0402, 0603, 0805, 1206, 1210, 2010, 2512 standard case sizes available</li><li class="features-and-benefits-list-item">±1% and ±5% tolerance</li><li class="features-and-benefits-list-item">±100ppm/°C, ±200ppm/°C and ±250ppm/°C TCR values available</li><li class="features-and-benefits-list-item">Power rating selectable for 50mW, 63mW, 0.1W, 0.125W, 0.25W, 0.5W and 1W based on ordering</li><li class="features-and-benefits-list-item">Jumpers are available for all size</li><li class="features-and-benefits-list-item">3 layer termination process with nickel barrier prevents leaching & provides excellent solderability</li><li class="features-and-benefits-list-item">Suitable for all type of soldering processes</li><li class="features-and-benefits-list-item">Tight dimensional tolerances</li><li class="features-and-benefits-list-item">Maximum working voltage depends on case size</li><li class="features-and-benefits-list-item">Operating temperature of -55°C to +125°C(CR0201) and -55°C to +155; Supplier 1: Farnell; Manufacturer: BOURNS; Manufacturer Part Number: CR0603-J/-000ELF; RoHS: YES; Stock 1: 58200; Pricing 1: 10=0.0146, 250=0.0097, 1000=0.0073, 5000=0.0049, 12500=0.0042 (GBP); Resistance Tolerance: ± 5%; Packaging: Cut Tape; Resistor Element Material: Thick Film; Temperature Coefficient: -; Automotive Qualification Standard: -; MSL: MSL 1 - Unlimited; ComponentLink1URL: http://www.bourns.com/engineering/CHPREZTR/cr0603.stp; ComponentLink1Description: http://www.bourns.com/engineering/CHPREZTR/cr0603.stp; ComponentLink2URL: http://www.farnell.com/datasheets/2178762.pdf; ComponentLink2Description: http://www.farnell.com/datasheets/2178762.pdf; Supplier Part Number 1: 2008343
footprint RES0603
pins: 1, 2

## CRCW06031K80FKEA
designator R?, comment 1K8
VISHAY - CRCW06031K80FKEA - RES, THICK FILM, 1K8, 1%, 0.1W, 0603; Supplier 1: Farnell; Manufacturer: VISHAY; Manufacturer Part Number: CRCW06031K80FKEA; RoHS: Y-EX; Stock 1: 21649; Pricing 1: 10=0.0105, 100=0.0094, 500=0.0055, 1000=0.005, 2500=0.0038 (GBP); ComponentLink1URL: http://www.farnell.com/datasheets/2111203.pdf; ComponentLink1Description: http://www.farnell.com/datasheets/2111203.pdf; ComponentLink2URL: http://www.farnell.com/cad/1552026.zip; ComponentLink2Description: http://www.farnell.com/cad/1552026.zip; Supplier Part Number 1: 1652854
footprint RES0603
pins: 1, 2

## CRCW060349R9FKEA
designator R?, comment 49.9R
VISHAY - CRCW060349R9FKEA - RES, THICK FILM, 49R9, 1%, 0.1W, 0603; Resistance: 49.9; Voltage Rating: 75; Resistor Case Style: 0603 [1608 Metric]; Power Rating: 100; Product Range: CRCW Series; Temperature Coefficient: ± 100; Automotive Qualification Standard: AEC-Q200; Resistor Mounting: Surface Mount Device<!--FANDB--><div class="features-and-benefits-container"><div class="features-and-benefits-description"><span class="features-benefits-value">The Vishay D/CRCW e3 series are standard thick film chip resistors. The resistance range includes E96 and E24 decade values from 1ohm to 10Mohm. CRCW e3 series resistors have a pure tin solder contacts on the Ni barrier layer that provides compatibility with reflow soldering process.</span></div><div class="features-and-benefits-list"><ul class="features-and-benefits-list-list"><li class="features-and-benefits-list-item">Automotive grade AEC-Q200 qualified</li><li class="features-and-benefits-list-item">EIA 0402, 0603, 0805, 1206, 1210, 1218, 2010, 2512 standard case sizes available</li><li class="features-and-benefits-list-item">Stability &Delta; Supplier 1: Farnell; Manufacturer: VISHAY; Manufacturer Part Number: CRCW060349R9FKEA; RoHS: Y-EX; Stock 1: 45411; Pricing 1: 10=0.0158, 100=0.0094, 500=0.0071, 1000=0.0052, 2500=0.0047 (GBP); Resistance Tolerance: ± 1%; Packaging: Cut Tape; Resistor Element Material: Thick Film; MSL: MSL 1 - Unlimited; ComponentLink1URL: http://www.farnell.com/datasheets/2111203.pdf; ComponentLink1Description: http://www.farnell.com/datasheets/2111203.pdf; ComponentLink2URL: http://www.farnell.com/cad/1552291.zip; ComponentLink2Description: http://www.farnell.com/cad/1552291.zip; Supplier Part Number 1: 1469817
footprint RES0603
pins: 1, 2

## CRM1206-FX-R100ELF
designator R?, comment 1M /1%
BOURNS - CRM1206-FX-R100ELF - RESISTOR, THICK, 0.1R, 0.5W, 1%, 1206; Resistance: 0.1; Power Rating: 500; Resistor Case Style: 1206 [3216 Metric]; Product Range: CRM Series; Resistor Element Material: Thick Film; Temperature Coefficient: ± 100; SVHC: No SVHC (20-Jun-2016); External Depth: 1.6; External Length / Height: 0.55; External Width: 3.1; No. of Pins: 2; Resistor Mounting: Surface Mount Device; Voltage Rating: 675mV<!--FANDB--><div class="features-and-benefits-container"><div class="features-and-benefits-description"><span class="features-benefits-value">The CRM1206-FX-R100ELF is a high power current sense Chip Resistor with thick film technology, 1206 package type, Power rating of 0.5W and temperature coefficient at 100PPM.</span></div><div class="features-and-benefits-list"><ul class="features-and-benefits-list-list"><li class="features-and-benefits-list-item">1000; Supplier 1: Farnell; Manufacturer: BOURNS; Manufacturer Part Number: CRM1206-FX-R100ELF; RoHS: YES; Stock 1: 20469; Pricing 1: 10=0.302, 100=0.176, 500=0.118, 1000=0.0962, 2500=0.0814, 5000=0.076, 25000=0.0705, 50000=0.0691 (GBP); Resistance Tolerance: ± 1%; Packaging: Cut Tape; Automotive Qualification Standard: -; MSL: MSL 1 - Unlimited; ComponentLink1URL: http://www.bourns.com/engineering/CRS/CRS1206.stp; ComponentLink1Description: http://www.bourns.com/engineering/CRS/CRS1206.stp; ComponentLink2URL: http://www.farnell.com/datasheets/1936783.pdf; ComponentLink2Description: http://www.farnell.com/datasheets/1936783.pdf; ComponentLink3URL: http://www.farnell.com/cad/1616730.zip; ComponentLink3Description: http://www.farnell.com/cad/1616730.zip; Supplier Part Number 1: 1865244
footprint RES1206
pins: 1, 2

## DMG1012T-7
designator Q?  (value not drawn)
MOSFET MOSFET N-CHANNEL SOT-523; Manufacturer: Diodes Incorporated; Configuration: 1 N-Channel; Number of Channels: 1 Channel; Channel Mode: Enhancement; Fall Time: 12.3 ns; Id - Continuous Drain Current: 630 mA; Pd - Power Dissipation: 280 mW; Qg - Gate Charge: 736.6 pC; Rds On - Drain-Source Resistance: 300 mOhms; Rise Time: 7.4 ns; Typical Turn-Off Delay Time: 26.7 ns; Typical Turn-On Delay Time: 5.1 ns; Vds - Drain-Source Breakdown Voltage: 20 V; Vgs - Gate-Source Voltage: +/- 6 V; Vgs th - Gate-Source Threshold Voltage: 500 mV; Supplier 1: Mouser; Manufacturer Part Number: DMG1012T-7; RoHS: RoHS Compliant; Category: MOSFET; Stock 1: 1195; Pricing 1: 1=0.273, 10=0.187, 100=0.077, 1000=0.053, 3000=0.041, 9000=0.035, 24000=0.033, 45000=0.031, 99000=0.027 (EUR); Package/Case: SOT-523-3; Packaging: Reel; Product: MOSFET Small Signal; Series: DMG1012; Technology: Si; Transistor Type: 1 N-Channel; Brand: Diodes Incorporated; Mounting Style: SMD/SMT; Transistor Polarity: N-Channel; Maximum Operating Temperature: + 150 C; Minimum Operating Temperature: - 55 C; Standard Pack Qty: 3000; RoHS - Mouser: Y; Minimum Order Quantity: 1; Reeling: True; ComponentLink1URL: http://www.mouser.com/ds/2/115/ds31783-44973.pdf; ComponentLink1Description: http://www.mouser.com/ds/2/115/ds31783-44973.pdf; Supplier Part Number 1: 621-DMG1012T-7
footprint DMG1012T-7 (SOT23, 3-Leads, Body 1.60x1.60mm, Pitch 0.50mm, IPC Medium Density)
pins: 1 D, 2 G, 3 S

## Ethernet RJ45
designator CON?
1 Port RJ45 Magjack Connector Through Hole 10/100 Base-T, AutoMDIX, Power over Ethernet (PoE); Manufacturer: Bel Fuse; Manufacturer Part Number: 0826-1L1T-57-F; Gender: Jack; Mounting Angle: Right Angle; Number of Positions: 8 Position; Shielding: Shielded; Number of Ports: 1 Port; Supplier 1: Mouser; RoHS: RoHS Compliant; Category: Modular Connectors / Ethernet Connectors; Stock 1: 0; Pricing 1: 1=5.23, 10=5.02, 25=4.58, 100=4.19, 250=3.66, 500=3.56, 1000=3.03, 2500=2.82 (EUR); Contact Plating: Gold; Housing Material: Thermoplastic; Packaging: Tray; Product: Modular Jacks; Series: 826; Termination Style: Through Hole; Brand: Bel Fuse; Flammability Rating: UL 94 V-0; Mounting Style: Panel; Standard Pack Qty: 40; Tradename: MagJack; USOC Codes: RJ45; RoHS - Mouser: Y; Minimum Order Quantity: 1; Reeling: False; ComponentLink1URL: http://www.mouser.com/ds/2/643/0826-1L1T-57-F-532261.pdf; ComponentLink1Description: http://www.mouser.com/ds/2/643/0826-1L1T-57-F-532261.pdf; Supplier 2: Digi-Key; Supplier Part Number 1: 530-0826-1L1T-57-F; Supplier Part Number 2: 507-1431-ND; Supplier 3: Farnell; Stock 3: 92210; Pricing 3: 10=0.181, 100=0.0749, 500=0.0692, 1000=0.0478, 2500=0.0401 (GBP); ComponentLink2URL: http://www.onsemi.com/PowerSolutions/supportDoc.do?type=models&rpn=MRA4007; ComponentLink2Description: http://www.onsemi.com/PowerSolutions/supportDoc.do?type=models&rpn=MRA4007; ComponentLink3URL: http://www.farnell.com/datasheets/2028669.pdf; ComponentLink3Description: http://www.farnell.com/datasheets/2028669.pdf; ComponentLink4URL: http://www.farnell.com/datasheets/2037280.pdf; ComponentLink4Description: http://www.farnell.com/datasheets/2037280.pdf; Supplier Part Number 3: 1459137
footprint 0826-1L1T-57-F (Ethernet connector)
pins: 0 Shield (oc), 1 RD+, 2 TD+, 5 VC12, 6 VC45, 7 CT, 8 RD-, 9 TD-, 10 VC36, 11 VC78, 12, 13, 14, 15
text: J1; RX+; TCT; J2; RX-; J3; TX+; RCT; J6; TX-; J4; J5; J7; J8; 4X 22nF 100V; 4X 75Ω; 1000pF/2kV; Green; Yellow; +

## FID_1MMC
designator FID?  (value not drawn)  (no BOM)
Fiducial 40mil Diameter, 120mil Mask; Supplier: Digikey
footprint FID_40X120D

## FSUSB42MUX
designator U?
FAIRCHILD SEMICONDUCTOR - FSUSB42MUX - USB SWITCH, DUAL, DPDT, MSOP-10; No. of Channels: 2; On State Resistance Max: 4.5; Supply Voltage Range: 2.4V to 3.6; Analogue Switch Case: MSOP; No. of Pins: 10; SVHC: No SVHC (15-Jun-2015; Supplier 1: Farnell; Manufacturer: FAIRCHILD SEMICONDUCTOR; Manufacturer Part Number: FSUSB42MUX; RoHS: YES; Stock 1: 1029; Pricing 1: 1=0.246, 10=0.193, 100=0.187, 250=0.181, 500=0.175, 1000=0.17 (GBP); Analogue Switch Type: DPDT; Operating Temperature Min: -40; Operating Temperature Max: 85; Packaging: Cut Tape; Product Range: -; Automotive Qualification Standard: -; MSL: MSL 1 - Unlimited; ComponentLink1URL: http://www.farnell.com/datasheets/2246555.pdf; ComponentLink1Description: http://www.farnell.com/datasheets/2246555.pdf; Supplier Part Number 1: 2564479
footprint MO-187 (MSOP, 10-Leads, Body 3.00x3.00mm, Pitch 0.50mm, IPC Medium Density)
pins: 1 VCC (oc), 2 SEL (oc), 3 D+ (oc), 4 D- (oc), 5 GND (oc), 6 HSD1- (oc), 7 HSD1+ (oc), 8 HSD2- (oc), 9 HSD2+ (oc), 10 ~{OE} (oc)

## FSUSB42UMX
designator U?  Supplier Part Number 1: FSUSB42UMXCT-ND
Bi-directional, low-power, high-speed, USB2.0 (480Mbps) switch; Manufacturer: Fairchild/ON Semiconductor; Manufacturer Part Number: FSUSB42UMX; Switch Circuit: DPDT; Number of Channels: 1; On-State Resistance (Max): 6.5 Ohm; Voltage - Supply, Single (V+): 2.4 V ~ 4.4 V; -3db Bandwidth: 720MHz; Supplier 1: Digi-Key; RoHS: RoHS Compliant; Category: Integrated Circuits (ICs); Stock 1: 4471; Pricing 1: 1=0.58, 10=0.51, 100=0.3909, 500=0.309, 1000=0.2472 (USD); Packaging: Cut Tape (CT); Part Status: Active; Applications: USB; Multiplexer/Demultiplexer Circuit: -; Voltage - Supply, Dual (V±): -; Features: Break-Before-Make, USB 2.0; Operating Temperature: -40°C ~ 85°C (TA); Package / Case: 10-UFQFN; Supplier Device Package: 10-UMLP (1.8x1.4); ComponentLink1URL: https://www.fairchildsemi.com/datasheets/FS/FSUSB42.pdf; ComponentLink1Description: https://www.fairchildsemi.com/datasheets/FS/FSUSB42.pdf
pins: 1 D+, 2 D-, 3 GND, 4 HSD1-, 5 HSD1+, 6 HSD2-, 7 HSD2+, 8 ~{OE}, 9 VCC, 10 SEL

## GRM21BR61A476ME15L
designator C?, comment 47uF /10V
MURATA - GRM21BR61A476ME15L - CAP, MLCC, X5R, 47UF, 10V, 0805; Ceramic Capacitor Case: 0805 [2012 Metric]; Capacitance: 47; Voltage Rating: 10; Capacitance Tolerance: ± 20%; Dielectric Characteristic: X5; Product Range: GRM Series; SVHC: No SVHC (17-Dec-2015; Supplier 1: Farnell; Manufacturer: MURATA; Manufacturer Part Number: GRM21BR61A476ME15L; RoHS: YES; Stock 1: 27604; Pricing 1: 5=0.699, 50=0.295, 250=0.232, 500=0.193, 1500=0.171 (GBP); Packaging: Cut Tape; Operating Temperature Min: -55; Operating Temperature Max: 85; Automotive Qualification Standard: -; MSL: MSL 1 - Unlimited; ComponentLink1URL: http://www.farnell.com/datasheets/2079183.pdf; ComponentLink1Description: http://www.farnell.com/datasheets/2079183.pdf; Supplier Part Number 1: 2611939
footprint CAP0805
pins: 1, 2

## GRM21BR71C105KA01L
designator C?, comment 1uF /16V
MURATA - GRM21BR71C105KA01L - CAP, MLCC, X7R, 1UF, 16V, 0805; Supplier 1: Farnell; Manufacturer: MURATA; Manufacturer Part Number: GRM21BR71C105KA01L; RoHS: YES; Stock 1: 58053; Pricing 1: 5=0.0398, 50=0.0331, 250=0.0235, 500=0.022, 1500=0.018 (GBP); ComponentLink1URL: http://www.farnell.com/datasheets/2047889.pdf; ComponentLink1Description: http://www.farnell.com/datasheets/2047889.pdf; ComponentLink2URL: http://www.farnell.com/cad/1547313.zip; ComponentLink2Description: http://www.farnell.com/cad/1547313.zip; ComponentLink3URL: http://www.farnell.com/datasheets/2006461.pdf; ComponentLink3Description: http://www.farnell.com/datasheets/2006461.pdf; Supplier Part Number 1: 9527710
footprint CAP0805
pins: 1, 2

## GRM31CR61H106KA12L
designator C?, comment 10uF /50V
MURATA - GRM31CR61H106KA12L - CAP, MLCC, X5R, 10UF, 50V, 1206; Supplier 1: Farnell; Manufacturer: MURATA; Manufacturer Part Number: GRM31CR61H106KA12L; RoHS: YES; Stock 1: 51830; Pricing 1: 5=0.368, 50=0.214, 250=0.196, 500=0.178, 1000=0.159 (GBP); ComponentLink1URL: http://www.farnell.com/datasheets/2048767.pdf; ComponentLink1Description: http://www.farnell.com/datasheets/2048767.pdf; Supplier Part Number 1: 1845762
footprint CAP1206
pins: 1, 2

## GRM188R61C105KA12D
designator C?, comment 1uF /16V
MURATA - GRM188R61C105KA12D - CAP, MLCC, X5R, 1UF, 16V, 0603; Ceramic Capacitor Case: 0603 [1608 Metric]; Capacitance: 1; Voltage Rating: 16; Capacitance Tolerance: ± 10%; Dielectric Characteristic: X5; Product Range: GRM Series; SVHC: No SVHC (17-Dec-2015); Capacitance Tolerance ±: ± 10%<!--FANDB--><div class="features-and-benefits-container"><div class="features-and-benefits-description"><span class="features-benefits-value">The Murata GRM series capacitors are Multilayer Ceramic Chip Capacitors (MLCC) used for general purpose applications. These MLCC capacitors are classified into temperature compensating and high dielectric constant types depending on the change in electrostatic capacitance due to change in temperature. The temperature compensating capacitors feature a small rate of change in electrostatic capacitance as the temperature changes and are used for applications such as filters and high frequency circuit matching. The high dielectric constant capacitors use materials with a high dielectric constant and feature a large electrostatic capacitance. Typical applications are power supply decoupling and smoothing circuits.</span></div><div class="features-and-benefits-list"><ul class="features-and-benefits-list-list"><li class="features-and-benefits-list-item">Large capacity and small size in a multilayer structure</li><li class="features-and-benefits-list-item">Capacitance value ranging from 0.1pF to 220?F</li><li class="features-and-benefits-list-item">Tin plated external electrodes, excellent solderability</li><li class="features-and-benefits-list-item">Provides good high frequency characteristics</li><li class="features-and-benefits-list-item">Excellent pulse response</li><li class="features-and-benefits-list-item">High reliability</li><li class="features-and-benefits-list-item">Capacitor size varies from 0.4×0.2mm to 5.7×5.0mm</li><li class="features-and-benefits-list-item">Rated voltage of 2.5VDC to 3.15; Supplier 1: Farnell; Manufacturer: MURATA; Manufacturer Part Number: GRM188R61C105KA12D; RoHS: YES; Stock 1: 27380; Pricing 1: 10=0.0194, 100=0.013, 500=0.0101, 1000=0.0078, 2000=0.0074 (GBP); Packaging: Cut Tape; Operating Temperature Min: -55; Operating Temperature Max: 85; Automotive Qualification Standard: -; MSL: MSL 1 - Unlimited; ComponentLink1URL: http://www.farnell.com/datasheets/2047881.pdf; ComponentLink1Description: http://www.farnell.com/datasheets/2047881.pdf; ComponentLink2URL: http://www.farnell.com/datasheets/2006461.pdf; ComponentLink2Description: http://www.farnell.com/datasheets/2006461.pdf; Supplier Part Number 1: 2362099RL
footprint CAP0603
pins: 1, 2

## GRM188R61C105KA12D (2)
designator C?, comment 1uF /16V
MURATA - GRM188R61C105KA12D - CAP, MLCC, X5R, 1UF, 16V, 0603; Ceramic Capacitor Case: 0603 [1608 Metric]; Capacitance: 1; Voltage Rating: 16; Capacitance Tolerance: ± 10%; Dielectric Characteristic: X5; Product Range: GRM Series; SVHC: No SVHC (17-Dec-2015); Capacitance Tolerance ±: ± 10%<!--FANDB--><div class="features-and-benefits-container"><div class="features-and-benefits-description"><span class="features-benefits-value">The Murata GRM series capacitors are Multilayer Ceramic Chip Capacitors (MLCC) used for general purpose applications. These MLCC capacitors are classified into temperature compensating and high dielectric constant types depending on the change in electrostatic capacitance due to change in temperature. The temperature compensating capacitors feature a small rate of change in electrostatic capacitance as the temperature changes and are used for applications such as filters and high frequency circuit matching. The high dielectric constant capacitors use materials with a high dielectric constant and feature a large electrostatic capacitance. Typical applications are power supply decoupling and smoothing circuits.</span></div><div class="features-and-benefits-list"><ul class="features-and-benefits-list-list"><li class="features-and-benefits-list-item">Large capacity and small size in a multilayer structure</li><li class="features-and-benefits-list-item">Capacitance value ranging from 0.1pF to 220?F</li><li class="features-and-benefits-list-item">Tin plated external electrodes, excellent solderability</li><li class="features-and-benefits-list-item">Provides good high frequency characteristics</li><li class="features-and-benefits-list-item">Excellent pulse response</li><li class="features-and-benefits-list-item">High reliability</li><li class="features-and-benefits-list-item">Capacitor size varies from 0.4×0.2mm to 5.7×5.0mm</li><li class="features-and-benefits-list-item">Rated voltage of 2.5VDC to 3.15; Supplier 1: Farnell; Manufacturer: MURATA; Manufacturer Part Number: GRM188R61C105KA12D; RoHS: YES; Stock 1: 27380; Pricing 1: 10=0.0194, 100=0.013, 500=0.0101, 1000=0.0078, 2000=0.0074 (GBP); Packaging: Cut Tape; Operating Temperature Min: -55; Operating Temperature Max: 85; Automotive Qualification Standard: -; MSL: MSL 1 - Unlimited; ComponentLink1URL: http://www.farnell.com/datasheets/2047881.pdf; ComponentLink1Description: http://www.farnell.com/datasheets/2047881.pdf; ComponentLink2URL: http://www.farnell.com/datasheets/2006461.pdf; ComponentLink2Description: http://www.farnell.com/datasheets/2006461.pdf; Supplier Part Number 1: 2362099
footprint CAP0603
pins: 1, 2